# Altium integrated library GX-8.IntLib: 1 symbol
Pins are listed as number, name and electrical type; pins without a type are passive.

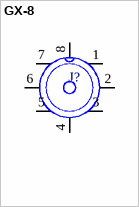
[diagram p0: symbol GX-8]

## GX-8
designator J?
8 Position Circular Connector Receptacle, Male Pins Solder; Manufacturer: Amphenol Tuchel Industrial; Manufacturer Product Number: C09131W0081002U; ComponentLink1Description: Manufacturer Link; ComponentLink1URL: https://www.digikey.com/en/products/detail/amphenol-tuchel-industrial/C09131W0081002U/1036183; ComponentLink2Description: Datasheet; ComponentLink2URL: http://www.amphenol-sine.com/pdf/catalog/C091.pdf
footprint GX-8 (8 Position Circular Connector Receptacle, Male Pins Solder)
pins: 1 "Signal Pin", 2, 3, 4, 5, 6, 7, 8